# Altium schematic symbol library 691322310003.SchLib: 1 symbol
Pins are listed as number, name and electrical type; pins without a type are passive.

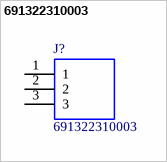
[diagram p0: symbol 691322310003]

## 691322310003
designator J?
Wurth Elektronik 322 Series 3.81mm Pitch Straight Pluggable Terminal Block, PCB Header, Through Hole, 3 Way; Geometry.Height: 7mm; Mouser Part Number: 710-691322310003; Mouser Price/Stock: https://www.mouser.co.uk/ProductDetail/Wurth-Elektronik/691322310003?qs=2kOmHSv6VfRm90BfltG1Gw%3D%3D; Manufacturer_Name: Wurth Elektronik; Manufacturer_Part_Number: 691322310003; Datasheet Link: https://katalog.we-online.de/em/datasheet/6913223100xx.pdf
footprint SHDRRA3W80P0X381_1X3_1262X920X700P
pins: 1, 2, 3